# Altium schematic symbol library TPS61222.SchLib: 1 symbol
Pins are listed as number, name and electrical type; pins without a type are passive.

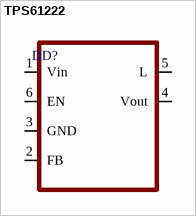
[diagram p0: symbol TPS61222]

## TPS61222
designator DD?
pins: 1 Vin, 2 FB, 3 GND, 4 Vout, 5 L, 6 EN